# Altium footprint library 稳压器件.PcbLib: 4 footprints
Each footprint in its own frame and in the unit in brackets; x right, y up, seen from the top. Pads: shape width x height; smd on the part's side, far side on the other; paste and mask are expansions set on the pad; w line width, h text height; cw(c..) or ccw(c..) is an arc to the next point about the centre after c.
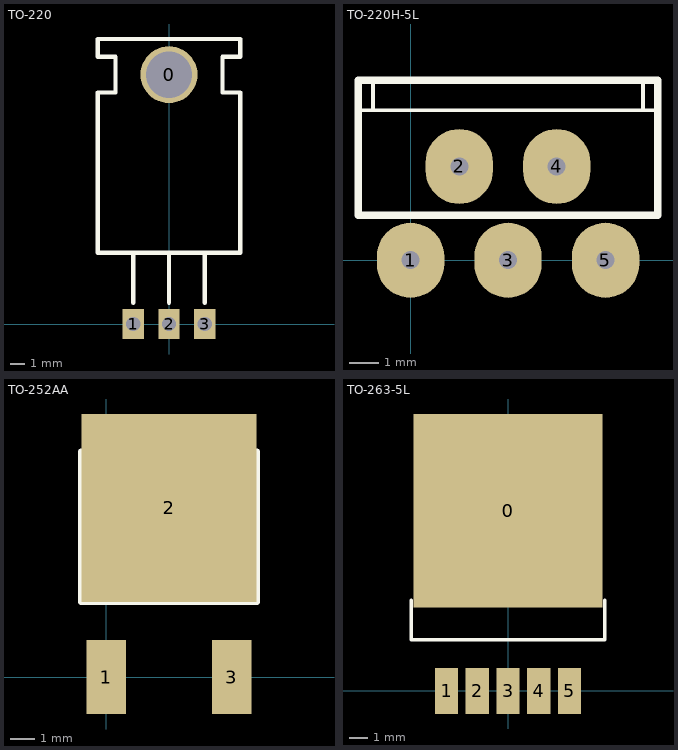
[diagram p0: the footprints below, top view; thin cyan lines are the x and y axes]

## TO-220 [mil]
pads (4):
  round 160 hole 130: 0(0,700)
  rect 60x84 hole 40: 1(-100,0) 2(0,0) 3(100,0)
Top Overlay:
  lines w12: -100,60 -100,200 ; 0,60 0,200 ; 100,60 100,200 ; -200,200 -200,650 -150,650 -150,750 -200,750 -200,800 200,800 200,750 150,750 150,650 200,650 200,200 -200,200

## TO-220H-5L [mil]
pads (5):
  oval 90x100 hole 24: 1(0,0) 2(65,125) 3(130,0) 4(195,125) 5(260,0)
Top Overlay:
  lines w5: -70,200 330,200 ; -50,200 -50,240 ; 310,200 310,240
  lines w10: -70,60 -70,240 130,240 330,240 330,60 -70,60

## TO-252AA [mil]
pads (3):
  rect 63x118 smd: 1(0,0) 3(200,0)
  rect 280x300 smd: 2(100,270)
Top Overlay:
  lines w10: -40,360 -40,120 240,120 240,360

## TO-263-5L [mil]
pads (6):
  rect 410x420 smd: 0(0,391)
  rect 50x100 smd: 1(-133.3,0) 2(-66.7,0) 3(0,0) 4(66.7,0) 5(133.3,0)
Top Overlay:
  lines w8: -210,197 -210,111 0,111 210,111 210,197